# EAGLE library part FH12-10S-0.5S (library PCB_KioskMB_r3.3-05)
0.5mm Pitch Connectors For FPC/FFC Source: Data sheet <http://www.hirose.co.jp/cataloge_hp/e58605370.pdf>
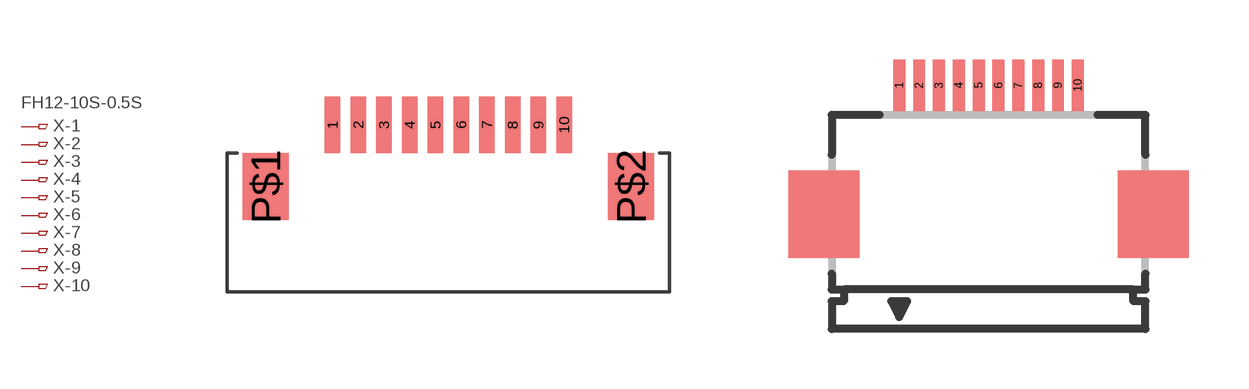
[diagram p30: symbol with the pads of CON-FPC-1.0MM-10POS; footprints CON-FPC-1.0MM-10POS, FH12-10S-0.5SH]

Designator prefix X; gates -1=PINV -2=PIN -3=PIN -4=PIN -5=PIN -6=PIN -7=PIN -8=PIN -9=PIN -10=PIN

## FH12-10S-0.5S1.00MM, FH12-10S-0.5S1101.00MM, FH12-10S-0.5S1411.00MM, FH12-10S-0.5S221.00MM, FH12-10S-0.5S6861.00MM, FH12-10S-0.5SWERI_FPC1.00MM  [CON-FPC-1.0MM-10POS]
1  -1:1  pas
2  -2:1  pas
3  -3:1  pas
4  -4:1  pas
5  -5:1  pas
6  -6:1  pas
7  -7:1  pas
8  -8:1  pas
9  -9:1  pas
10  -10:1  pas

## FH12-10S-0.5SH (MPN: FH12-10S-0.5SH(55); OC_FARNELL: 1324540; OC_NEWARK: 34M6152)  [FH12-10S-0.5SH]
Pads as for CON-FPC-1.0MM-10POS

## Footprint CON-FPC-1.0MM-10POS (pad centres in mm)
smd 0.6 x 2.2: 1 -4.5,0; 2 -3.5,0; 3 -2.5,0; 4 -1.5,0; 5 -0.5,0; 6 0.5,0; 7 1.5,0; 8 2.5,0; 9 3.5,0; 10 4.5,0
smd 1.8 x 2.6: P$1 -7.1,-2.4; P$2 7.1,-2.4

## Footprint FH12-10S-0.5SH (pad centres in mm)
0.5mm Pitch Connectors For FPC/FFC Source: Data sheet <http://www.hirose.co.jp/cataloge_hp/e58605370.pdf>
smd 0.3 x 1.3: 1 -2.25,3.25; 2 -1.75,3.25; 3 -1.25,3.25; 4 -0.75,3.25; 5 -0.25,3.25; 6 0.25,3.25; 7 0.75,3.25; 8 1.25,3.25; 9 1.75,3.25; 10 2.25,3.25